# Altium schematic symbol library 肖特基二极管.SchLib: 1 symbol
Pins are listed as number, name and electrical type; pins without a type are passive.

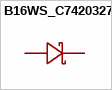
[diagram p0: symbol B16WS_C7420327]

## B16WS_C7420327
designator D?, comment B16WS  (value not drawn)
Manufacturer: 宏迦橙; Symbol: B16WS_C7420327; Add into BOM: yes; Diode Configuration: 独立式; Forward Voltage (Vf@If): 700mV@1A; Reverse Voltage (Vr): 60V; Average Rectified Current (Io): 1A; Reverse Leakage Current (Ir): 100uA@60V; Peak forward surge current: 10A; Device: B16WS_C7420327; LCSC Part Name: 电压:60V 电流:1A; Supplier Part: C7420327; Manufacturer Part: B16WS; Supplier Footprint: SOD-323; JLCPCB Part Class: Extended Part; Datasheet: https://atta.szlcsc.com/upload/public/pdf/source/20230828/F9ABA74578AB4CF1325004D8C613CE3A.pdf; Supplier: LCSC; Convert to PCB: yes
footprint SOD-323_L1.7-W1.3-LS2.5-FD
3D model SOD-323_L1.7-W1.3-LS2.5-FD
footprint SOD-323_L1.7-W1.3-LS2.5-FD
pins: 1 A, 2 K